# EAGLE library part 50208-017 (library con-aces-50208-series)
ACES CONNECTORS 50208 SERIES ACES Connecors 50208 <https://www.acesconn.com/tw/series/50208-xxxxx-xxx/1224>
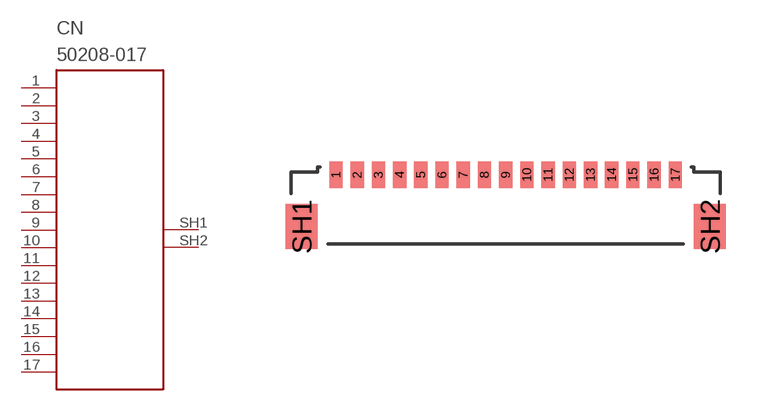
[diagram p13: symbol with the pads of 50208-017; footprint 50208-017]

Designator prefix CN

## 50208-017  [50208-017]
1  1
2  2
3  3
4  4
5  5
6  6
7  7
8  8
9  9
10  10
11  11
12  12
13  13
14  14
15  15
16  16
17  17
SH1  SH1
SH2  SH2

## Footprint 50208-017 (pad centres in mm)
smd 0.5 x 1: 1 -6.4,0; 2 -5.6,0; 3 -4.8,0; 4 -4,0; 5 -3.2,0; 6 -2.4,0; 7 -1.6,0; 8 -0.8,0; 9 0,0; 10 0.8,0; 11 1.6,0; 12 2.4,0; 13 3.2,0; 14 4,0; 15 4.8,0; 16 5.6,0; 17 6.4,0
smd 1.2 x 1.7: SH1 -7.7,-1.95; SH2 7.7,-1.95